# Altium footprint library uFLAntenna.PcbLib: 1 footprints
Each footprint in its own frame and in the unit in brackets; x right, y up, seen from the top. Pads: shape width x height; smd on the part's side, far side on the other; paste and mask are expansions set on the pad; w line width, h text height; cw(c..) or ccw(c..) is an arc to the next point about the centre after c.
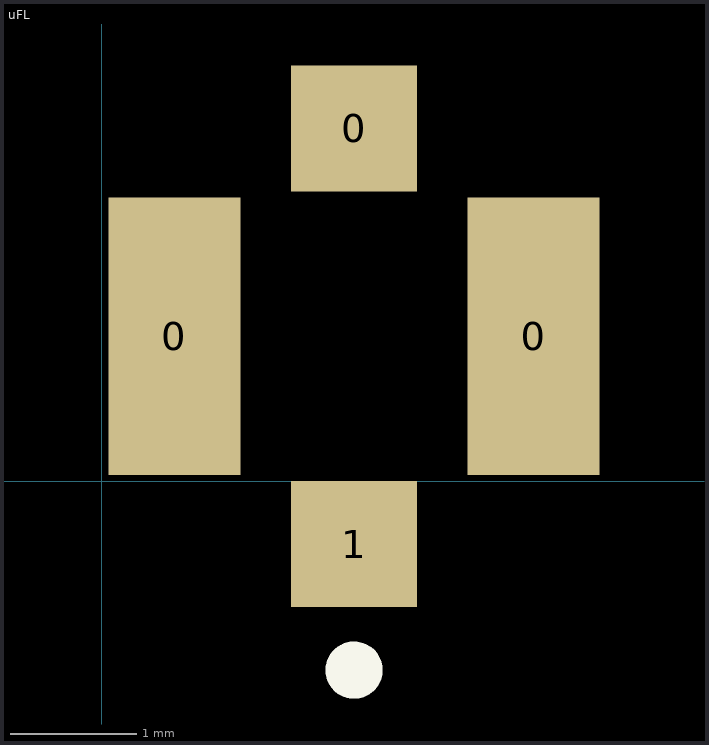
[diagram p0: the footprint, top view; thin cyan lines are the x and y axes]

## uFL [mm]
pads (4):
  rect 1.05x2.2 smd: 0(0.575,1.15) 0(3.425,1.15)
  rect 1x1 smd: 0(2,2.8) 1(2,-0.5)
Top Overlay:
  circle w0.254: c2,-1.5 r0.1
3D body: height 0.36, standoff 0, extent 0.7,-0.15 3.3,2.45